# Altium footprint library Semiconductors.PcbLib: 51 footprints (part 4 of 4)
Each footprint in its own frame and in the unit in brackets; x right, y up, seen from the top. Pads: shape width x height; smd on the part's side, far side on the other; paste and mask are expansions set on the pad; w line width, h text height; cw(c..) or ccw(c..) is an arc to the next point about the centre after c.
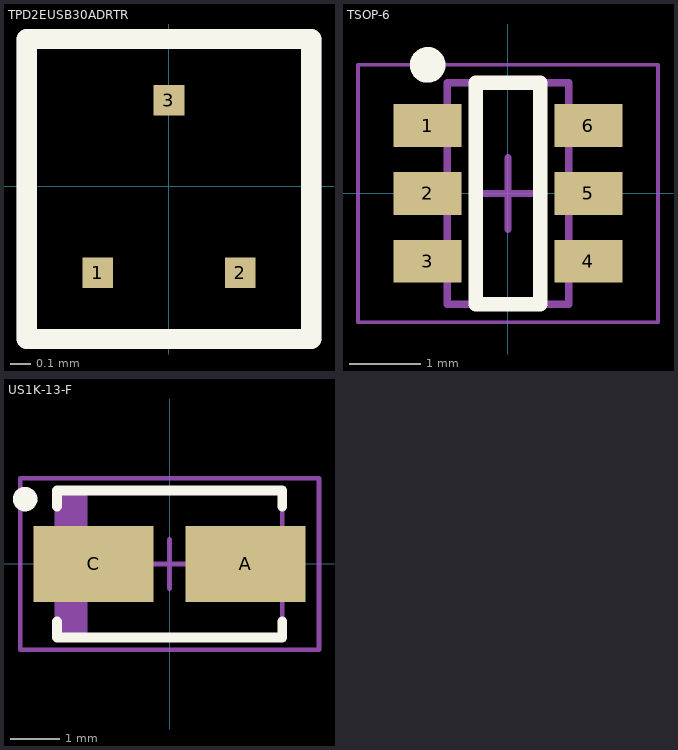
[diagram p3: the footprints below, top view; thin cyan lines are the x and y axes]

## TPD2EUSB30ADRTR [mm] "TVS DIODE 3.6VWM 8VC SOT3"
height 0.5
pads (3):
  rect 0.15x0.15 smd: 1(-0.35,-0.425) 2(0.35,-0.425) 3(0,0.425)
Top Overlay:
  lines w0.1: -0.7,-0.75 0.7,-0.75 0.7,0.725 -0.7,0.725 -0.7,-0.75
Mechanical 15:
  lines w0.1: -0.7,-0.75 0.7,-0.75 0.7,0.725 -0.7,0.725 -0.7,-0.75
3D body: height 0.5, standoff 0, extent -0.5,-0.4 0.5,0.4

## TSOP-6 [mm] "SOT23, 6-Leads, Body 3.00x2.75mm, Pitch 0.95mm, IPC Medium Density"
height 1.1
pads (6):
  rect 0.95x0.6 smd: 1(-1.125,0.95) 2(-1.125,0) 3(-1.125,-0.95) 4(1.125,-0.95) 5(1.125,0) 6(1.125,0.95)
Top Overlay:
  circle w0.25: c-1.125,1.8 r0.125
  lines w0.2: -0.45,-1.55 -0.45,1.55 0.45,1.55 0.45,-1.55 -0.45,-1.55
Mechanical 13:
  lines w0.1: -0.85,-1.55 0.85,-1.55 0.85,1.55 -0.85,1.55 -0.85,-1.55
Mechanical 15:
  lines w0.05: -2.1,-1.8 2.1,-1.8 2.1,1.8 -2.1,1.8 -2.1,-1.8
  lines w0.1: -0.5,0 0.5,0 ; 0,-0.5 0,0.5
3D body: height 1.1, standoff 0.01, extent -0.85,-1.55 0.85,1.55

## US1K-13-F [mm] "Molded Diode, 2-Leads, Body 4.3x2.6mm, IPC Medium Density"
height 2.3
pads (2):
  rect 2.45x1.55 smd: A(1.55,0) C(-1.55,0)
Top Overlay:
  circle w0.25: c-2.95,1.325 r0.125
  lines w0.2: -2.3,-1.175 -2.3,-1.5 2.3,-1.5 2.3,-1.175 ; -2.3,1.175 -2.3,1.5 2.3,1.5 2.3,1.175
Mechanical 13:
  rectangle: -2.3,-1.46 -1.681,1.46
  lines w0.1: -2.3,-1.46 -2.3,1.46 2.3,1.46 2.3,-1.46 -2.3,-1.46
Mechanical 15:
  lines w0.1: -0.5,0 0.5,0 ; 0,-0.5 0,0.5 ; -3.05,-1.75 -3.05,1.75 3.05,1.75 3.05,-1.75 -3.05,-1.75
3D body: height 2.3, standoff 0, extent -2.3,-1.46 2.3,1.46